# EAGLE library part 418127270908 (library Wurth_Elektronik_Electromechanic_Switch_rev17b)
WS-DITV THT version, raise actuator without top tape sealed Specification Contact Rating Switching :25mA, 24VDC Non-Switching : 100mA, 50VDC Contact Resistance Initial: 50mΩ max. After life test: 100mΩ max. Insulation Resistance: min.100MΩ at 500VDC Dielectric Strength : 500VAC for 1 minute Operation Force :600g max. Mechanical Life : 2000 cycles Electrical Life : 2000 cycles / 25mA, 24VDC Raise Actuator type Material Cover : : PA9T UL 94 V-0, color Black Base :PA9T UL 94 V-0, color Black. Actuator :PA46 UL 94 V-0, color White Contact : : Gold Plated Terminal : Gold Plated <http://katalog.we-online.de/media/images/v2/Family_WS-DITV_THT_RAISED_ACTUATOR_4181272709xx_4C.jpg> Details see: http://katalog.we-online.de/en/em/418_127_270_9xx?sid=338a3ff20b 2015 (C) Würth Elektronik
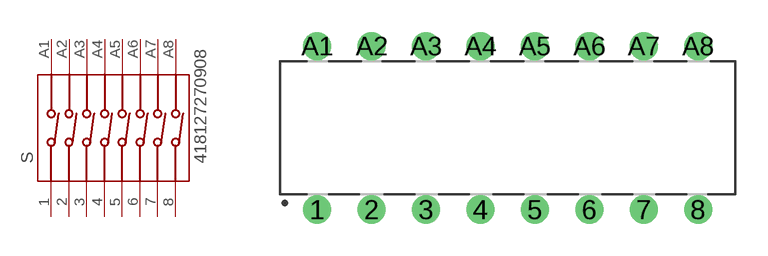
[diagram p142: symbol with the pads of 418127270908; footprint 418127270908]

Designator prefix S

## 418127270908  [418127270908]
1  1  pas
2  2  pas
3  3  pas
4  4  pas
5  5  pas
6  6  pas
7  7  pas
8  8  pas
A1  A1  pas
A2  A2  pas
A3  A3  pas
A4  A4  pas
A5  A5  pas
A6  A6  pas
A7  A7  pas
A8  A8  pas

## Footprint 418127270908 (pad centres in mm)
WS-DITV THT version, raise actuator without top tape sealed 418127270908
drill 0.8: 1 -8.89,-3.81; 2 -6.35,-3.81; 3 -3.81,-3.81; 4 -1.27,-3.81; 5 1.27,-3.81; 6 3.81,-3.81; 7 6.35,-3.81; 8 8.89,-3.81; A1 -8.89,3.81; A2 -6.35,3.81; A3 -3.81,3.81; A4 -1.27,3.81; A5 1.27,3.81; A6 3.81,3.81; A7 6.35,3.81; A8 8.89,3.81